# EAGLE library part LPS33HW (library FaBo-Mems)
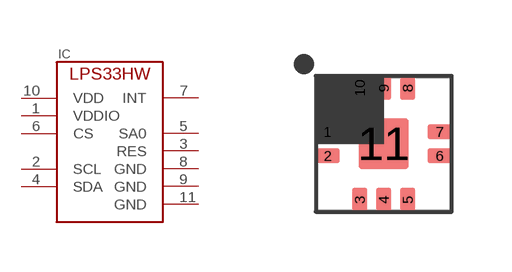
[diagram p44: symbol with the pads of LPS33HW; footprint LPS33HW]

Designator prefix IC

## LPS33HW  [LPS33HW]
1  VDDIO
2  SCL
3  RES
4  SDA
5  SA0
6  CS
7  INT
8  GND
9  GND
10  VDD
11  GND

## Footprint LPS33HW (pad centres in mm)
smd 0.6 x 0.375: 1 -1.4,0.3; 2 -1.4,-0.3; 6 1.4,-0.3; 7 1.4,0.3
smd 0.375 x 0.6: 3 -0.6,-1.4; 4 0,-1.4; 5 0.6,-1.4; 8 0.6,1.4; 9 0,1.4; 10 -0.6,1.4
smd 1.25 x 1.25: 11 0,0